# Altium integrated library ST Memory EPROM 1-16 Mbit.IntLib: 1093 symbols (part 1 of 19)
Pins are listed as number, name and electrical type; pins without a type are passive.

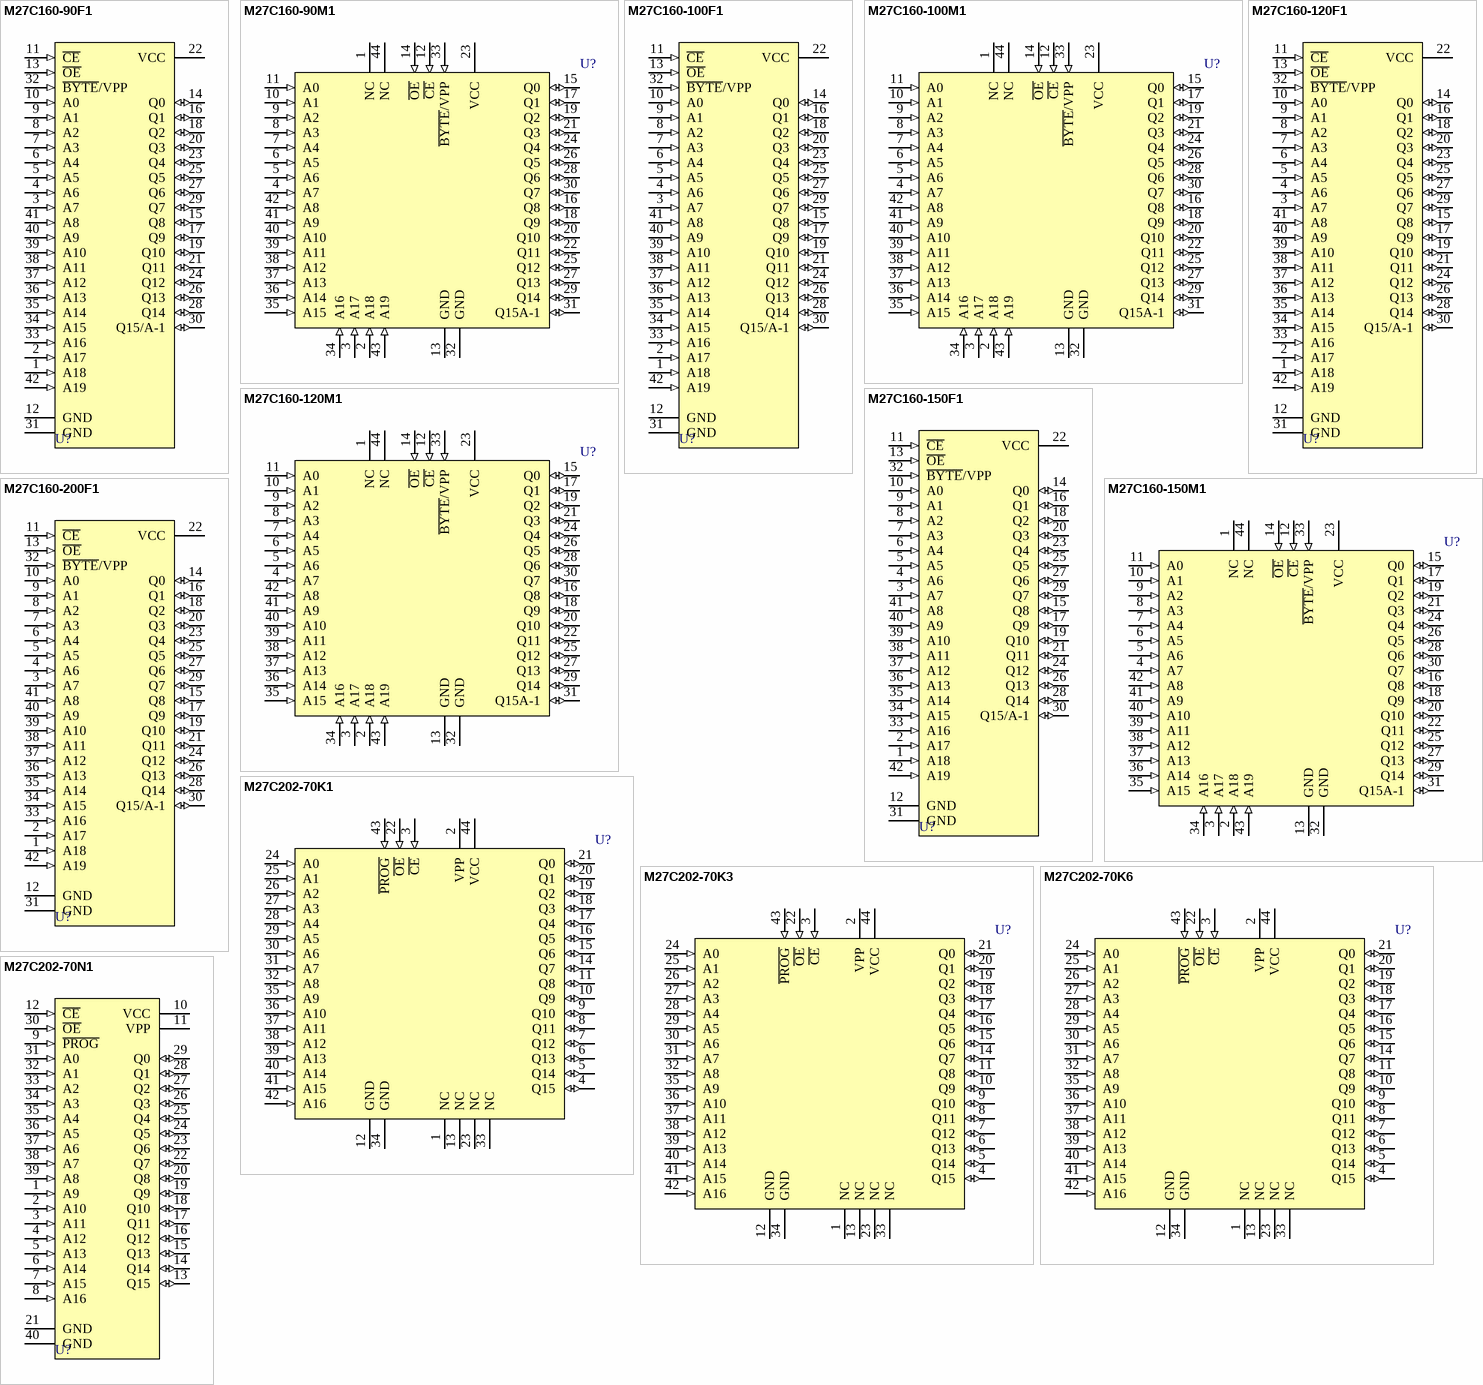
[diagram p0: symbols M27C160-90F1 to M27C202-70N1]

## M27C160-90F1
designator U?
16 Mbit (2Mb x 8 or 1Mb x 16) UV EPROM and OTP EPROM; Published: 24-Aug-2001; LatestRevisionDate: 17-Jul-2002; LatestRevisionNote: Re-released for DXP Platform.; DatasheetDocument: Feb-1999; PackageReference: FDIP42W; Publisher: Altium Limited
footprint FDIP42W (Ceramic Frit-seal DIP, Window; 42 Leads; Row Spacing 15.24 mm; Pitch 2.54 mm)
pins: 1 A18 (in), 2 A17 (in), 3 A7 (in), 4 A6 (in), 5 A5 (in), 6 A4 (in), 7 A3 (in), 8 A2 (in), 9 A1 (in), 10 A0 (in), 11 ~{CE} (in), 12 GND (power), 13 ~{OE} (in), 14 Q0 (io), 15 Q8 (io), 16 Q1 (io), 17 Q9 (io), 18 Q2 (io), 19 Q10 (io), 20 Q3 (io), 21 Q11 (io), 22 VCC (power), 23 Q4 (io), 24 Q12 (io), 25 Q5 (io), 26 Q13 (io), 27 Q6 (io), 28 Q14 (io), 29 Q7 (io), 30 Q15/A-1 (io), 31 GND (power), 32 ~{BYTE}/VPP (in), 33 A16 (in), 34 A15 (in), 35 A14 (in), 36 A13 (in), 37 A12 (in), 38 A11 (in), 39 A10 (in), 40 A9 (in), 41 A8 (in), 42 A19 (in)

## M27C160-90M1
designator U?
16 Mbit (2Mb x 8 or 1Mb x 16) UV EPROM and OTP EPROM; Published: 24-Aug-2001; LatestRevisionDate: 17-Jul-2002; LatestRevisionNote: Re-released for DXP Platform.; DatasheetDocument: Feb-1999; PackageReference: SO44; Publisher: Altium Limited
footprint SO44 (Small Outline, Plastic; 44 Leads; Body Width 13.3 mm; Pitch 1.27 mm)
pins: 1 NC, 2 A18 (in), 3 A17 (in), 4 A7 (in), 5 A6 (in), 6 A5 (in), 7 A4 (in), 8 A3 (in), 9 A2 (in), 10 A1 (in), 11 A0 (in), 12 ~{CE} (in), 13 GND (power), 14 ~{OE} (in), 15 Q0 (io), 16 Q8 (io), 17 Q1 (io), 18 Q9 (io), 19 Q2 (io), 20 Q10 (io), 21 Q3 (io), 22 Q11 (io), 23 VCC (power), 24 Q4 (io), 25 Q12 (io), 26 Q5 (io), 27 Q13 (io), 28 Q6 (io), 29 Q14 (io), 30 Q7 (io), 31 Q15A-1 (io), 32 GND (power), 33 ~{BYTE}/VPP (in), 34 A16 (in), 35 A15 (in), 36 A14 (in), 37 A13 (in), 38 A12 (in), 39 A11 (in), 40 A10 (in), 41 A9 (in), 42 A8 (in), 43 A19 (in), 44 NC

## M27C160-100F1
designator U?
16 Mbit (2Mb x 8 or 1Mb x 16) UV EPROM and OTP EPROM; Published: 24-Aug-2001; LatestRevisionDate: 17-Jul-2002; LatestRevisionNote: Re-released for DXP Platform.; DatasheetDocument: Feb-1999; PackageReference: FDIP42W; Publisher: Altium Limited
footprint FDIP42W (Ceramic Frit-seal DIP, Window; 42 Leads; Row Spacing 15.24 mm; Pitch 2.54 mm)
pins: 1 A18 (in), 2 A17 (in), 3 A7 (in), 4 A6 (in), 5 A5 (in), 6 A4 (in), 7 A3 (in), 8 A2 (in), 9 A1 (in), 10 A0 (in), 11 ~{CE} (in), 12 GND (power), 13 ~{OE} (in), 14 Q0 (io), 15 Q8 (io), 16 Q1 (io), 17 Q9 (io), 18 Q2 (io), 19 Q10 (io), 20 Q3 (io), 21 Q11 (io), 22 VCC (power), 23 Q4 (io), 24 Q12 (io), 25 Q5 (io), 26 Q13 (io), 27 Q6 (io), 28 Q14 (io), 29 Q7 (io), 30 Q15/A-1 (io), 31 GND (power), 32 ~{BYTE}/VPP (in), 33 A16 (in), 34 A15 (in), 35 A14 (in), 36 A13 (in), 37 A12 (in), 38 A11 (in), 39 A10 (in), 40 A9 (in), 41 A8 (in), 42 A19 (in)

## M27C160-100M1
designator U?
16 Mbit (2Mb x 8 or 1Mb x 16) UV EPROM and OTP EPROM; Published: 24-Aug-2001; LatestRevisionDate: 17-Jul-2002; LatestRevisionNote: Re-released for DXP Platform.; DatasheetDocument: Feb-1999; PackageReference: SO44; Publisher: Altium Limited
footprint SO44 (Small Outline, Plastic; 44 Leads; Body Width 13.3 mm; Pitch 1.27 mm)
pins: 1 NC, 2 A18 (in), 3 A17 (in), 4 A7 (in), 5 A6 (in), 6 A5 (in), 7 A4 (in), 8 A3 (in), 9 A2 (in), 10 A1 (in), 11 A0 (in), 12 ~{CE} (in), 13 GND (power), 14 ~{OE} (in), 15 Q0 (io), 16 Q8 (io), 17 Q1 (io), 18 Q9 (io), 19 Q2 (io), 20 Q10 (io), 21 Q3 (io), 22 Q11 (io), 23 VCC (power), 24 Q4 (io), 25 Q12 (io), 26 Q5 (io), 27 Q13 (io), 28 Q6 (io), 29 Q14 (io), 30 Q7 (io), 31 Q15A-1 (io), 32 GND (power), 33 ~{BYTE}/VPP (in), 34 A16 (in), 35 A15 (in), 36 A14 (in), 37 A13 (in), 38 A12 (in), 39 A11 (in), 40 A10 (in), 41 A9 (in), 42 A8 (in), 43 A19 (in), 44 NC

## M27C160-120F1
designator U?
16 Mbit (2Mb x 8 or 1Mb x 16) UV EPROM and OTP EPROM; Published: 24-Aug-2001; LatestRevisionDate: 17-Jul-2002; LatestRevisionNote: Re-released for DXP Platform.; DatasheetDocument: Feb-1999; PackageReference: FDIP42W; Publisher: Altium Limited
footprint FDIP42W (Ceramic Frit-seal DIP, Window; 42 Leads; Row Spacing 15.24 mm; Pitch 2.54 mm)
pins: 1 A18 (in), 2 A17 (in), 3 A7 (in), 4 A6 (in), 5 A5 (in), 6 A4 (in), 7 A3 (in), 8 A2 (in), 9 A1 (in), 10 A0 (in), 11 ~{CE} (in), 12 GND (power), 13 ~{OE} (in), 14 Q0 (io), 15 Q8 (io), 16 Q1 (io), 17 Q9 (io), 18 Q2 (io), 19 Q10 (io), 20 Q3 (io), 21 Q11 (io), 22 VCC (power), 23 Q4 (io), 24 Q12 (io), 25 Q5 (io), 26 Q13 (io), 27 Q6 (io), 28 Q14 (io), 29 Q7 (io), 30 Q15/A-1 (io), 31 GND (power), 32 ~{BYTE}/VPP (in), 33 A16 (in), 34 A15 (in), 35 A14 (in), 36 A13 (in), 37 A12 (in), 38 A11 (in), 39 A10 (in), 40 A9 (in), 41 A8 (in), 42 A19 (in)

## M27C160-120M1
designator U?
16 Mbit (2Mb x 8 or 1Mb x 16) UV EPROM and OTP EPROM; Published: 24-Aug-2001; LatestRevisionDate: 17-Jul-2002; LatestRevisionNote: Re-released for DXP Platform.; DatasheetDocument: Feb-1999; PackageReference: SO44; Publisher: Altium Limited
footprint SO44 (Small Outline, Plastic; 44 Leads; Body Width 13.3 mm; Pitch 1.27 mm)
pins: 1 NC, 2 A18 (in), 3 A17 (in), 4 A7 (in), 5 A6 (in), 6 A5 (in), 7 A4 (in), 8 A3 (in), 9 A2 (in), 10 A1 (in), 11 A0 (in), 12 ~{CE} (in), 13 GND (power), 14 ~{OE} (in), 15 Q0 (io), 16 Q8 (io), 17 Q1 (io), 18 Q9 (io), 19 Q2 (io), 20 Q10 (io), 21 Q3 (io), 22 Q11 (io), 23 VCC (power), 24 Q4 (io), 25 Q12 (io), 26 Q5 (io), 27 Q13 (io), 28 Q6 (io), 29 Q14 (io), 30 Q7 (io), 31 Q15A-1 (io), 32 GND (power), 33 ~{BYTE}/VPP (in), 34 A16 (in), 35 A15 (in), 36 A14 (in), 37 A13 (in), 38 A12 (in), 39 A11 (in), 40 A10 (in), 41 A9 (in), 42 A8 (in), 43 A19 (in), 44 NC

## M27C160-150F1
designator U?
16 Mbit (2Mb x 8 or 1Mb x 16) UV EPROM and OTP EPROM; Published: 24-Aug-2001; LatestRevisionDate: 17-Jul-2002; LatestRevisionNote: Re-released for DXP Platform.; DatasheetDocument: Feb-1999; PackageReference: FDIP42W; Publisher: Altium Limited
footprint FDIP42W (Ceramic Frit-seal DIP, Window; 42 Leads; Row Spacing 15.24 mm; Pitch 2.54 mm)
pins: 1 A18 (in), 2 A17 (in), 3 A7 (in), 4 A6 (in), 5 A5 (in), 6 A4 (in), 7 A3 (in), 8 A2 (in), 9 A1 (in), 10 A0 (in), 11 ~{CE} (in), 12 GND (power), 13 ~{OE} (in), 14 Q0 (io), 15 Q8 (io), 16 Q1 (io), 17 Q9 (io), 18 Q2 (io), 19 Q10 (io), 20 Q3 (io), 21 Q11 (io), 22 VCC (power), 23 Q4 (io), 24 Q12 (io), 25 Q5 (io), 26 Q13 (io), 27 Q6 (io), 28 Q14 (io), 29 Q7 (io), 30 Q15/A-1 (io), 31 GND (power), 32 ~{BYTE}/VPP (in), 33 A16 (in), 34 A15 (in), 35 A14 (in), 36 A13 (in), 37 A12 (in), 38 A11 (in), 39 A10 (in), 40 A9 (in), 41 A8 (in), 42 A19 (in)

## M27C160-150M1
designator U?
16 Mbit (2Mb x 8 or 1Mb x 16) UV EPROM and OTP EPROM; Published: 24-Aug-2001; LatestRevisionDate: 17-Jul-2002; LatestRevisionNote: Re-released for DXP Platform.; DatasheetDocument: Feb-1999; PackageReference: SO44; Publisher: Altium Limited
footprint SO44 (Small Outline, Plastic; 44 Leads; Body Width 13.3 mm; Pitch 1.27 mm)
pins: 1 NC, 2 A18 (in), 3 A17 (in), 4 A7 (in), 5 A6 (in), 6 A5 (in), 7 A4 (in), 8 A3 (in), 9 A2 (in), 10 A1 (in), 11 A0 (in), 12 ~{CE} (in), 13 GND (power), 14 ~{OE} (in), 15 Q0 (io), 16 Q8 (io), 17 Q1 (io), 18 Q9 (io), 19 Q2 (io), 20 Q10 (io), 21 Q3 (io), 22 Q11 (io), 23 VCC (power), 24 Q4 (io), 25 Q12 (io), 26 Q5 (io), 27 Q13 (io), 28 Q6 (io), 29 Q14 (io), 30 Q7 (io), 31 Q15A-1 (io), 32 GND (power), 33 ~{BYTE}/VPP (in), 34 A16 (in), 35 A15 (in), 36 A14 (in), 37 A13 (in), 38 A12 (in), 39 A11 (in), 40 A10 (in), 41 A9 (in), 42 A8 (in), 43 A19 (in), 44 NC

## M27C160-200F1
designator U?
16 Mbit (2Mb x 8 or 1Mb x 16) UV EPROM and OTP EPROM; Published: 24-Aug-2001; LatestRevisionDate: 17-Jul-2002; LatestRevisionNote: Re-released for DXP Platform.; DatasheetDocument: Feb-1999; PackageReference: FDIP42W; Publisher: Altium Limited
footprint FDIP42W (Ceramic Frit-seal DIP, Window; 42 Leads; Row Spacing 15.24 mm; Pitch 2.54 mm)
pins: 1 A18 (in), 2 A17 (in), 3 A7 (in), 4 A6 (in), 5 A5 (in), 6 A4 (in), 7 A3 (in), 8 A2 (in), 9 A1 (in), 10 A0 (in), 11 ~{CE} (in), 12 GND (power), 13 ~{OE} (in), 14 Q0 (io), 15 Q8 (io), 16 Q1 (io), 17 Q9 (io), 18 Q2 (io), 19 Q10 (io), 20 Q3 (io), 21 Q11 (io), 22 VCC (power), 23 Q4 (io), 24 Q12 (io), 25 Q5 (io), 26 Q13 (io), 27 Q6 (io), 28 Q14 (io), 29 Q7 (io), 30 Q15/A-1 (io), 31 GND (power), 32 ~{BYTE}/VPP (in), 33 A16 (in), 34 A15 (in), 35 A14 (in), 36 A13 (in), 37 A12 (in), 38 A11 (in), 39 A10 (in), 40 A9 (in), 41 A8 (in), 42 A19 (in)

## M27C202-70K1
designator U?
2 Mbit (128Kb x 16) UV EPROM and OTP EPROM; Published: 24-Aug-2001; LatestRevisionDate: 17-Jul-2002; LatestRevisionNote: Re-released for DXP Platform.; DatasheetDocument: Apr-1999; PackageDocument: Jun-1998; PackageReference: PLCC44; Publisher: Altium Limited; Code_IPC: PLCC-44
footprint PLCC44 (Leaded Chip Carrier; 44 Leads; Body 16.5 x 16.5 mm)
pins: 1 NC, 2 VPP (power), 3 ~{CE} (in), 4 Q15 (io), 5 Q14 (io), 6 Q13 (io), 7 Q12 (io), 8 Q11 (io), 9 Q10 (io), 10 Q9 (io), 11 Q8 (io), 12 GND (power), 13 NC, 14 Q7 (io), 15 Q6 (io), 16 Q5 (io), 17 Q4 (io), 18 Q3 (io), 19 Q2 (io), 20 Q1 (io), 21 Q0 (io), 22 ~{OE} (in), 23 NC, 24 A0 (in), 25 A1 (in), 26 A2 (in), 27 A3 (in), 28 A4 (in), 29 A5 (in), 30 A6 (in), 31 A7 (in), 32 A8 (in), 33 NC, 34 GND (power), 35 A9 (in), 36 A10 (in), 37 A11 (in), 38 A12 (in), 39 A13 (in), 40 A14 (in), 41 A15 (in), 42 A16 (in), 43 ~{PROG} (in), 44 VCC (power)

## M27C202-70K3
designator U?
2 Mbit (128Kb x 16) UV EPROM and OTP EPROM; Published: 24-Aug-2001; LatestRevisionDate: 17-Jul-2002; LatestRevisionNote: Re-released for DXP Platform.; DatasheetDocument: Apr-1999; PackageDocument: Jun-1998; PackageReference: PLCC44; Publisher: Altium Limited; Code_IPC: PLCC-44
footprint PLCC44 (Leaded Chip Carrier; 44 Leads; Body 16.5 x 16.5 mm)
pins: 1 NC, 2 VPP (power), 3 ~{CE} (in), 4 Q15 (io), 5 Q14 (io), 6 Q13 (io), 7 Q12 (io), 8 Q11 (io), 9 Q10 (io), 10 Q9 (io), 11 Q8 (io), 12 GND (power), 13 NC, 14 Q7 (io), 15 Q6 (io), 16 Q5 (io), 17 Q4 (io), 18 Q3 (io), 19 Q2 (io), 20 Q1 (io), 21 Q0 (io), 22 ~{OE} (in), 23 NC, 24 A0 (in), 25 A1 (in), 26 A2 (in), 27 A3 (in), 28 A4 (in), 29 A5 (in), 30 A6 (in), 31 A7 (in), 32 A8 (in), 33 NC, 34 GND (power), 35 A9 (in), 36 A10 (in), 37 A11 (in), 38 A12 (in), 39 A13 (in), 40 A14 (in), 41 A15 (in), 42 A16 (in), 43 ~{PROG} (in), 44 VCC (power)

## M27C202-70K6
designator U?
2 Mbit (128Kb x 16) UV EPROM and OTP EPROM; Published: 24-Aug-2001; LatestRevisionDate: 17-Jul-2002; LatestRevisionNote: Re-released for DXP Platform.; DatasheetDocument: Apr-1999; PackageDocument: Jun-1998; PackageReference: PLCC44; Publisher: Altium Limited; Code_IPC: PLCC-44
footprint PLCC44 (Leaded Chip Carrier; 44 Leads; Body 16.5 x 16.5 mm)
pins: 1 NC, 2 VPP (power), 3 ~{CE} (in), 4 Q15 (io), 5 Q14 (io), 6 Q13 (io), 7 Q12 (io), 8 Q11 (io), 9 Q10 (io), 10 Q9 (io), 11 Q8 (io), 12 GND (power), 13 NC, 14 Q7 (io), 15 Q6 (io), 16 Q5 (io), 17 Q4 (io), 18 Q3 (io), 19 Q2 (io), 20 Q1 (io), 21 Q0 (io), 22 ~{OE} (in), 23 NC, 24 A0 (in), 25 A1 (in), 26 A2 (in), 27 A3 (in), 28 A4 (in), 29 A5 (in), 30 A6 (in), 31 A7 (in), 32 A8 (in), 33 NC, 34 GND (power), 35 A9 (in), 36 A10 (in), 37 A11 (in), 38 A12 (in), 39 A13 (in), 40 A14 (in), 41 A15 (in), 42 A16 (in), 43 ~{PROG} (in), 44 VCC (power)

## M27C202-70N1
designator U?
2 Mbit (128Kb x 16) UV EPROM and OTP EPROM; Published: 24-Aug-2001; LatestRevisionDate: 17-Jul-2002; LatestRevisionNote: Re-released for DXP Platform.; DatasheetDocument: Apr-1999; PackageDocument: Jul-1998; PackageReference: TSOP40B; Publisher: Altium Limited; Code_JEDEC: MO-142-CA
footprint TSOP40B (Shrink Small Outline, Plastic, Thin; 40 Leads; Body Width 12.4 mm; Pitch 0.5 mm)
pins: 1 A9 (in), 2 A10 (in), 3 A11 (in), 4 A12 (in), 5 A13 (in), 6 A14 (in), 7 A15 (in), 8 A16 (in), 9 ~{PROG} (in), 10 VCC (power), 11 VPP (power), 12 ~{CE} (in), 13 Q15 (io), 14 Q14 (io), 15 Q13 (io), 16 Q12 (io), 17 Q11 (io), 18 Q10 (io), 19 Q9 (io), 20 Q8 (io), 21 GND (power), 22 Q7 (io), 23 Q6 (io), 24 Q5 (io), 25 Q4 (io), 26 Q3 (io), 27 Q2 (io), 28 Q1 (io), 29 Q0 (io), 30 ~{OE} (in), 31 A0 (in), 32 A1 (in), 33 A2 (in), 34 A3 (in), 35 A4 (in), 36 A5 (in), 37 A6 (in), 38 A7 (in), 39 A8 (in), 40 GND (power)

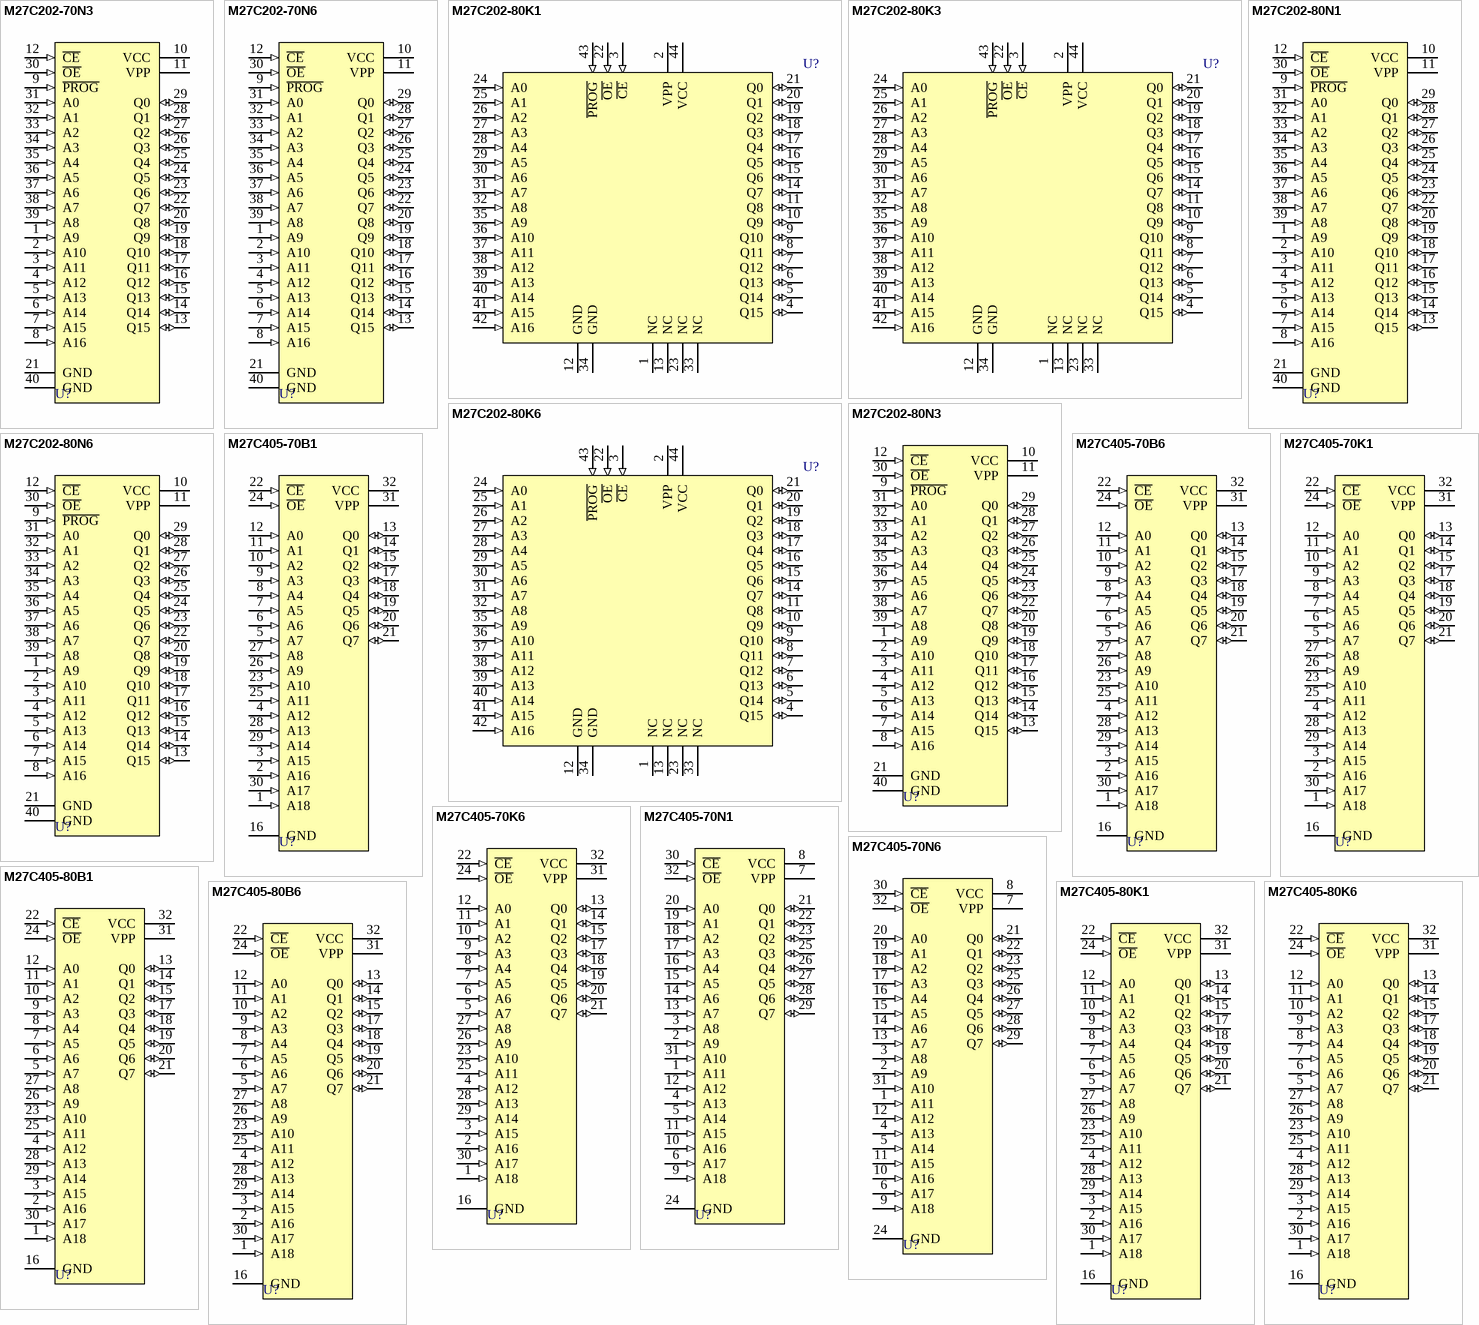
[diagram p1: symbols M27C202-70N3 to M27C405-80K6]

## M27C202-70N3
designator U?
2 Mbit (128Kb x 16) UV EPROM and OTP EPROM; Published: 24-Aug-2001; LatestRevisionDate: 17-Jul-2002; LatestRevisionNote: Re-released for DXP Platform.; DatasheetDocument: Apr-1999; PackageDocument: Jul-1998; PackageReference: TSOP40B; Publisher: Altium Limited; Code_JEDEC: MO-142-CA
footprint TSOP40B (Shrink Small Outline, Plastic, Thin; 40 Leads; Body Width 12.4 mm; Pitch 0.5 mm)
pins: 1 A9 (in), 2 A10 (in), 3 A11 (in), 4 A12 (in), 5 A13 (in), 6 A14 (in), 7 A15 (in), 8 A16 (in), 9 ~{PROG} (in), 10 VCC (power), 11 VPP (power), 12 ~{CE} (in), 13 Q15 (io), 14 Q14 (io), 15 Q13 (io), 16 Q12 (io), 17 Q11 (io), 18 Q10 (io), 19 Q9 (io), 20 Q8 (io), 21 GND (power), 22 Q7 (io), 23 Q6 (io), 24 Q5 (io), 25 Q4 (io), 26 Q3 (io), 27 Q2 (io), 28 Q1 (io), 29 Q0 (io), 30 ~{OE} (in), 31 A0 (in), 32 A1 (in), 33 A2 (in), 34 A3 (in), 35 A4 (in), 36 A5 (in), 37 A6 (in), 38 A7 (in), 39 A8 (in), 40 GND (power)

## M27C202-70N6
designator U?
2 Mbit (128Kb x 16) UV EPROM and OTP EPROM; Published: 24-Aug-2001; LatestRevisionDate: 17-Jul-2002; LatestRevisionNote: Re-released for DXP Platform.; DatasheetDocument: Apr-1999; PackageDocument: Jul-1998; PackageReference: TSOP40B; Publisher: Altium Limited; Code_JEDEC: MO-142-CA
footprint TSOP40B (Shrink Small Outline, Plastic, Thin; 40 Leads; Body Width 12.4 mm; Pitch 0.5 mm)
pins: 1 A9 (in), 2 A10 (in), 3 A11 (in), 4 A12 (in), 5 A13 (in), 6 A14 (in), 7 A15 (in), 8 A16 (in), 9 ~{PROG} (in), 10 VCC (power), 11 VPP (power), 12 ~{CE} (in), 13 Q15 (io), 14 Q14 (io), 15 Q13 (io), 16 Q12 (io), 17 Q11 (io), 18 Q10 (io), 19 Q9 (io), 20 Q8 (io), 21 GND (power), 22 Q7 (io), 23 Q6 (io), 24 Q5 (io), 25 Q4 (io), 26 Q3 (io), 27 Q2 (io), 28 Q1 (io), 29 Q0 (io), 30 ~{OE} (in), 31 A0 (in), 32 A1 (in), 33 A2 (in), 34 A3 (in), 35 A4 (in), 36 A5 (in), 37 A6 (in), 38 A7 (in), 39 A8 (in), 40 GND (power)

## M27C202-80K1
designator U?
2 Mbit (128Kb x 16) UV EPROM and OTP EPROM; Published: 24-Aug-2001; LatestRevisionDate: 17-Jul-2002; LatestRevisionNote: Re-released for DXP Platform.; DatasheetDocument: Apr-1999; PackageDocument: Jun-1998; PackageReference: PLCC44; Publisher: Altium Limited; Code_IPC: PLCC-44
footprint PLCC44 (Leaded Chip Carrier; 44 Leads; Body 16.5 x 16.5 mm)
pins: 1 NC, 2 VPP (power), 3 ~{CE} (in), 4 Q15 (io), 5 Q14 (io), 6 Q13 (io), 7 Q12 (io), 8 Q11 (io), 9 Q10 (io), 10 Q9 (io), 11 Q8 (io), 12 GND (power), 13 NC, 14 Q7 (io), 15 Q6 (io), 16 Q5 (io), 17 Q4 (io), 18 Q3 (io), 19 Q2 (io), 20 Q1 (io), 21 Q0 (io), 22 ~{OE} (in), 23 NC, 24 A0 (in), 25 A1 (in), 26 A2 (in), 27 A3 (in), 28 A4 (in), 29 A5 (in), 30 A6 (in), 31 A7 (in), 32 A8 (in), 33 NC, 34 GND (power), 35 A9 (in), 36 A10 (in), 37 A11 (in), 38 A12 (in), 39 A13 (in), 40 A14 (in), 41 A15 (in), 42 A16 (in), 43 ~{PROG} (in), 44 VCC (power)

## M27C202-80K3
designator U?
2 Mbit (128Kb x 16) UV EPROM and OTP EPROM; Published: 24-Aug-2001; LatestRevisionDate: 17-Jul-2002; LatestRevisionNote: Re-released for DXP Platform.; DatasheetDocument: Apr-1999; PackageDocument: Jun-1998; PackageReference: PLCC44; Publisher: Altium Limited; Code_IPC: PLCC-44
footprint PLCC44 (Leaded Chip Carrier; 44 Leads; Body 16.5 x 16.5 mm)
pins: 1 NC, 2 VPP (power), 3 ~{CE} (in), 4 Q15 (io), 5 Q14 (io), 6 Q13 (io), 7 Q12 (io), 8 Q11 (io), 9 Q10 (io), 10 Q9 (io), 11 Q8 (io), 12 GND (power), 13 NC, 14 Q7 (io), 15 Q6 (io), 16 Q5 (io), 17 Q4 (io), 18 Q3 (io), 19 Q2 (io), 20 Q1 (io), 21 Q0 (io), 22 ~{OE} (in), 23 NC, 24 A0 (in), 25 A1 (in), 26 A2 (in), 27 A3 (in), 28 A4 (in), 29 A5 (in), 30 A6 (in), 31 A7 (in), 32 A8 (in), 33 NC, 34 GND (power), 35 A9 (in), 36 A10 (in), 37 A11 (in), 38 A12 (in), 39 A13 (in), 40 A14 (in), 41 A15 (in), 42 A16 (in), 43 ~{PROG} (in), 44 VCC (power)

## M27C202-80K6
designator U?
2 Mbit (128Kb x 16) UV EPROM and OTP EPROM; Published: 24-Aug-2001; LatestRevisionDate: 17-Jul-2002; LatestRevisionNote: Re-released for DXP Platform.; DatasheetDocument: Apr-1999; PackageDocument: Jun-1998; PackageReference: PLCC44; Publisher: Altium Limited; Code_IPC: PLCC-44
footprint PLCC44 (Leaded Chip Carrier; 44 Leads; Body 16.5 x 16.5 mm)
pins: 1 NC, 2 VPP (power), 3 ~{CE} (in), 4 Q15 (io), 5 Q14 (io), 6 Q13 (io), 7 Q12 (io), 8 Q11 (io), 9 Q10 (io), 10 Q9 (io), 11 Q8 (io), 12 GND (power), 13 NC, 14 Q7 (io), 15 Q6 (io), 16 Q5 (io), 17 Q4 (io), 18 Q3 (io), 19 Q2 (io), 20 Q1 (io), 21 Q0 (io), 22 ~{OE} (in), 23 NC, 24 A0 (in), 25 A1 (in), 26 A2 (in), 27 A3 (in), 28 A4 (in), 29 A5 (in), 30 A6 (in), 31 A7 (in), 32 A8 (in), 33 NC, 34 GND (power), 35 A9 (in), 36 A10 (in), 37 A11 (in), 38 A12 (in), 39 A13 (in), 40 A14 (in), 41 A15 (in), 42 A16 (in), 43 ~{PROG} (in), 44 VCC (power)

## M27C202-80N1
designator U?
2 Mbit (128Kb x 16) UV EPROM and OTP EPROM; Published: 24-Aug-2001; LatestRevisionDate: 17-Jul-2002; LatestRevisionNote: Re-released for DXP Platform.; DatasheetDocument: Apr-1999; PackageDocument: Jul-1998; PackageReference: TSOP40B; Publisher: Altium Limited; Code_JEDEC: MO-142-CA
footprint TSOP40B (Shrink Small Outline, Plastic, Thin; 40 Leads; Body Width 12.4 mm; Pitch 0.5 mm)
pins: 1 A9 (in), 2 A10 (in), 3 A11 (in), 4 A12 (in), 5 A13 (in), 6 A14 (in), 7 A15 (in), 8 A16 (in), 9 ~{PROG} (in), 10 VCC (power), 11 VPP (power), 12 ~{CE} (in), 13 Q15 (io), 14 Q14 (io), 15 Q13 (io), 16 Q12 (io), 17 Q11 (io), 18 Q10 (io), 19 Q9 (io), 20 Q8 (io), 21 GND (power), 22 Q7 (io), 23 Q6 (io), 24 Q5 (io), 25 Q4 (io), 26 Q3 (io), 27 Q2 (io), 28 Q1 (io), 29 Q0 (io), 30 ~{OE} (in), 31 A0 (in), 32 A1 (in), 33 A2 (in), 34 A3 (in), 35 A4 (in), 36 A5 (in), 37 A6 (in), 38 A7 (in), 39 A8 (in), 40 GND (power)

## M27C202-80N3
designator U?
2 Mbit (128Kb x 16) UV EPROM and OTP EPROM; Published: 24-Aug-2001; LatestRevisionDate: 17-Jul-2002; LatestRevisionNote: Re-released for DXP Platform.; DatasheetDocument: Apr-1999; PackageDocument: Jul-1998; PackageReference: TSOP40B; Publisher: Altium Limited; Code_JEDEC: MO-142-CA
footprint TSOP40B (Shrink Small Outline, Plastic, Thin; 40 Leads; Body Width 12.4 mm; Pitch 0.5 mm)
pins: 1 A9 (in), 2 A10 (in), 3 A11 (in), 4 A12 (in), 5 A13 (in), 6 A14 (in), 7 A15 (in), 8 A16 (in), 9 ~{PROG} (in), 10 VCC (power), 11 VPP (power), 12 ~{CE} (in), 13 Q15 (io), 14 Q14 (io), 15 Q13 (io), 16 Q12 (io), 17 Q11 (io), 18 Q10 (io), 19 Q9 (io), 20 Q8 (io), 21 GND (power), 22 Q7 (io), 23 Q6 (io), 24 Q5 (io), 25 Q4 (io), 26 Q3 (io), 27 Q2 (io), 28 Q1 (io), 29 Q0 (io), 30 ~{OE} (in), 31 A0 (in), 32 A1 (in), 33 A2 (in), 34 A3 (in), 35 A4 (in), 36 A5 (in), 37 A6 (in), 38 A7 (in), 39 A8 (in), 40 GND (power)

## M27C202-80N6
designator U?
2 Mbit (128Kb x 16) UV EPROM and OTP EPROM; Published: 24-Aug-2001; LatestRevisionDate: 17-Jul-2002; LatestRevisionNote: Re-released for DXP Platform.; DatasheetDocument: Apr-1999; PackageDocument: Jul-1998; PackageReference: TSOP40B; Publisher: Altium Limited; Code_JEDEC: MO-142-CA
footprint TSOP40B (Shrink Small Outline, Plastic, Thin; 40 Leads; Body Width 12.4 mm; Pitch 0.5 mm)
pins: 1 A9 (in), 2 A10 (in), 3 A11 (in), 4 A12 (in), 5 A13 (in), 6 A14 (in), 7 A15 (in), 8 A16 (in), 9 ~{PROG} (in), 10 VCC (power), 11 VPP (power), 12 ~{CE} (in), 13 Q15 (io), 14 Q14 (io), 15 Q13 (io), 16 Q12 (io), 17 Q11 (io), 18 Q10 (io), 19 Q9 (io), 20 Q8 (io), 21 GND (power), 22 Q7 (io), 23 Q6 (io), 24 Q5 (io), 25 Q4 (io), 26 Q3 (io), 27 Q2 (io), 28 Q1 (io), 29 Q0 (io), 30 ~{OE} (in), 31 A0 (in), 32 A1 (in), 33 A2 (in), 34 A3 (in), 35 A4 (in), 36 A5 (in), 37 A6 (in), 38 A7 (in), 39 A8 (in), 40 GND (power)

## M27C405-70B1
designator U?
4 Mbit (512Kb x 8) OTP EPROM; PackageDocument: 1998; Published: 24-Aug-2001; LatestRevisionDate: 17-Jul-2002; LatestRevisionNote: Re-released for DXP Platform.; DatasheetDocument: Mar-1999; PackageReference: PDIP32; Publisher: Altium Limited
footprint PDIP32 (DIP, Plastic; 32 Leads; Row Spacing 15.24 mm; Pitch 2.54 mm)
pins: 1 A18 (in), 2 A16 (in), 3 A15 (in), 4 A12 (in), 5 A7 (in), 6 A6 (in), 7 A5 (in), 8 A4 (in), 9 A3 (in), 10 A2 (in), 11 A1 (in), 12 A0 (in), 13 Q0 (io), 14 Q1 (io), 15 Q2 (io), 16 GND (power), 17 Q3 (io), 18 Q4 (io), 19 Q5 (io), 20 Q6 (io), 21 Q7 (io), 22 ~{CE} (in), 23 A10 (in), 24 ~{OE} (in), 25 A11 (in), 26 A9 (in), 27 A8 (in), 28 A13 (in), 29 A14 (in), 30 A17 (in), 31 VPP (power), 32 VCC (power)

## M27C405-70B6
designator U?
4 Mbit (512Kb x 8) OTP EPROM; PackageDocument: 1998; Published: 24-Aug-2001; LatestRevisionDate: 17-Jul-2002; LatestRevisionNote: Re-released for DXP Platform.; DatasheetDocument: Mar-1999; PackageReference: PDIP32; Publisher: Altium Limited
footprint PDIP32 (DIP, Plastic; 32 Leads; Row Spacing 15.24 mm; Pitch 2.54 mm)
pins: 1 A18 (in), 2 A16 (in), 3 A15 (in), 4 A12 (in), 5 A7 (in), 6 A6 (in), 7 A5 (in), 8 A4 (in), 9 A3 (in), 10 A2 (in), 11 A1 (in), 12 A0 (in), 13 Q0 (io), 14 Q1 (io), 15 Q2 (io), 16 GND (power), 17 Q3 (io), 18 Q4 (io), 19 Q5 (io), 20 Q6 (io), 21 Q7 (io), 22 ~{CE} (in), 23 A10 (in), 24 ~{OE} (in), 25 A11 (in), 26 A9 (in), 27 A8 (in), 28 A13 (in), 29 A14 (in), 30 A17 (in), 31 VPP (power), 32 VCC (power)

## M27C405-70K1
designator U?
4 Mbit (512Kb x 8) OTP EPROM; Published: 24-Aug-2001; LatestRevisionDate: 17-Jul-2002; LatestRevisionNote: Re-released for DXP Platform.; DatasheetDocument: Mar-1999; PackageDocument: Jun-1998; PackageReference: PLCC32; Publisher: Altium Limited; Code_JEDEC: MS-016-AE; Code_IPC: PLCC/R-32
footprint PLCC32 (Leaded Chip Carrier; 32 Leads; Body 11.4 x 14 mm)
pins: 1 A18 (in), 2 A16 (in), 3 A15 (in), 4 A12 (in), 5 A7 (in), 6 A6 (in), 7 A5 (in), 8 A4 (in), 9 A3 (in), 10 A2 (in), 11 A1 (in), 12 A0 (in), 13 Q0 (io), 14 Q1 (io), 15 Q2 (io), 16 GND (power), 17 Q3 (io), 18 Q4 (io), 19 Q5 (io), 20 Q6 (io), 21 Q7 (io), 22 ~{CE} (in), 23 A10 (in), 24 ~{OE} (in), 25 A11 (in), 26 A9 (in), 27 A8 (in), 28 A13 (in), 29 A14 (in), 30 A17 (in), 31 VPP (power), 32 VCC (power)

## M27C405-70K6
designator U?
4 Mbit (512Kb x 8) OTP EPROM; Published: 24-Aug-2001; LatestRevisionDate: 17-Jul-2002; LatestRevisionNote: Re-released for DXP Platform.; DatasheetDocument: Mar-1999; PackageDocument: Jun-1998; PackageReference: PLCC32; Publisher: Altium Limited; Code_JEDEC: MS-016-AE; Code_IPC: PLCC/R-32
footprint PLCC32 (Leaded Chip Carrier; 32 Leads; Body 11.4 x 14 mm)
pins: 1 A18 (in), 2 A16 (in), 3 A15 (in), 4 A12 (in), 5 A7 (in), 6 A6 (in), 7 A5 (in), 8 A4 (in), 9 A3 (in), 10 A2 (in), 11 A1 (in), 12 A0 (in), 13 Q0 (io), 14 Q1 (io), 15 Q2 (io), 16 GND (power), 17 Q3 (io), 18 Q4 (io), 19 Q5 (io), 20 Q6 (io), 21 Q7 (io), 22 ~{CE} (in), 23 A10 (in), 24 ~{OE} (in), 25 A11 (in), 26 A9 (in), 27 A8 (in), 28 A13 (in), 29 A14 (in), 30 A17 (in), 31 VPP (power), 32 VCC (power)

## M27C405-70N1
designator U?
4 Mbit (512Kb x 8) OTP EPROM; Published: 24-Aug-2001; LatestRevisionDate: 26-May-2004; LatestRevisionNote: Pad length of PCB Footprint increased.; DatasheetDocument: Mar-1999; PackageDocument: Mar-1999; PackageReference: TSOP32; Publisher: Altium Limited; Code_JEDEC: MO-142-BD
footprint TSOP32 (Shrink Small Outline, Plastic, Thin; 32 Leads; Body Width 18.4 mm; Pitch 0.5 mm)
pins: 1 A11 (in), 2 A9 (in), 3 A8 (in), 4 A13 (in), 5 A14 (in), 6 A17 (in), 7 VPP (power), 8 VCC (power), 9 A18 (in), 10 A16 (in), 11 A15 (in), 12 A12 (in), 13 A7 (in), 14 A6 (in), 15 A5 (in), 16 A4 (in), 17 A3 (in), 18 A2 (in), 19 A1 (in), 20 A0 (in), 21 Q0 (io), 22 Q1 (io), 23 Q2 (io), 24 GND (power), 25 Q3 (io), 26 Q4 (io), 27 Q5 (io), 28 Q6 (io), 29 Q7 (io), 30 ~{CE} (in), 31 A10 (in), 32 ~{OE} (in)

## M27C405-70N6
designator U?
4 Mbit (512Kb x 8) OTP EPROM; Published: 24-Aug-2001; LatestRevisionDate: 26-May-2004; LatestRevisionNote: Pad length of PCB Footprint increased.; DatasheetDocument: Mar-1999; PackageDocument: Mar-1999; PackageReference: TSOP32; Publisher: Altium Limited; Code_JEDEC: MO-142-BD
footprint TSOP32 (Shrink Small Outline, Plastic, Thin; 32 Leads; Body Width 18.4 mm; Pitch 0.5 mm)
pins: 1 A11 (in), 2 A9 (in), 3 A8 (in), 4 A13 (in), 5 A14 (in), 6 A17 (in), 7 VPP (power), 8 VCC (power), 9 A18 (in), 10 A16 (in), 11 A15 (in), 12 A12 (in), 13 A7 (in), 14 A6 (in), 15 A5 (in), 16 A4 (in), 17 A3 (in), 18 A2 (in), 19 A1 (in), 20 A0 (in), 21 Q0 (io), 22 Q1 (io), 23 Q2 (io), 24 GND (power), 25 Q3 (io), 26 Q4 (io), 27 Q5 (io), 28 Q6 (io), 29 Q7 (io), 30 ~{CE} (in), 31 A10 (in), 32 ~{OE} (in)

## M27C405-80B1
designator U?
4 Mbit (512Kb x 8) OTP EPROM; PackageDocument: 1998; Published: 24-Aug-2001; LatestRevisionDate: 17-Jul-2002; LatestRevisionNote: Re-released for DXP Platform.; DatasheetDocument: Mar-1999; PackageReference: PDIP32; Publisher: Altium Limited
footprint PDIP32 (DIP, Plastic; 32 Leads; Row Spacing 15.24 mm; Pitch 2.54 mm)
pins: 1 A18 (in), 2 A16 (in), 3 A15 (in), 4 A12 (in), 5 A7 (in), 6 A6 (in), 7 A5 (in), 8 A4 (in), 9 A3 (in), 10 A2 (in), 11 A1 (in), 12 A0 (in), 13 Q0 (io), 14 Q1 (io), 15 Q2 (io), 16 GND (power), 17 Q3 (io), 18 Q4 (io), 19 Q5 (io), 20 Q6 (io), 21 Q7 (io), 22 ~{CE} (in), 23 A10 (in), 24 ~{OE} (in), 25 A11 (in), 26 A9 (in), 27 A8 (in), 28 A13 (in), 29 A14 (in), 30 A17 (in), 31 VPP (power), 32 VCC (power)

## M27C405-80B6
designator U?
4 Mbit (512Kb x 8) OTP EPROM; PackageDocument: 1998; Published: 24-Aug-2001; LatestRevisionDate: 17-Jul-2002; LatestRevisionNote: Re-released for DXP Platform.; DatasheetDocument: Mar-1999; PackageReference: PDIP32; Publisher: Altium Limited
footprint PDIP32 (DIP, Plastic; 32 Leads; Row Spacing 15.24 mm; Pitch 2.54 mm)
pins: 1 A18 (in), 2 A16 (in), 3 A15 (in), 4 A12 (in), 5 A7 (in), 6 A6 (in), 7 A5 (in), 8 A4 (in), 9 A3 (in), 10 A2 (in), 11 A1 (in), 12 A0 (in), 13 Q0 (io), 14 Q1 (io), 15 Q2 (io), 16 GND (power), 17 Q3 (io), 18 Q4 (io), 19 Q5 (io), 20 Q6 (io), 21 Q7 (io), 22 ~{CE} (in), 23 A10 (in), 24 ~{OE} (in), 25 A11 (in), 26 A9 (in), 27 A8 (in), 28 A13 (in), 29 A14 (in), 30 A17 (in), 31 VPP (power), 32 VCC (power)

## M27C405-80K1
designator U?
4 Mbit (512Kb x 8) OTP EPROM; Published: 24-Aug-2001; LatestRevisionDate: 17-Jul-2002; LatestRevisionNote: Re-released for DXP Platform.; DatasheetDocument: Mar-1999; PackageDocument: Jun-1998; PackageReference: PLCC32; Publisher: Altium Limited; Code_JEDEC: MS-016-AE; Code_IPC: PLCC/R-32
footprint PLCC32 (Leaded Chip Carrier; 32 Leads; Body 11.4 x 14 mm)
pins: 1 A18 (in), 2 A16 (in), 3 A15 (in), 4 A12 (in), 5 A7 (in), 6 A6 (in), 7 A5 (in), 8 A4 (in), 9 A3 (in), 10 A2 (in), 11 A1 (in), 12 A0 (in), 13 Q0 (io), 14 Q1 (io), 15 Q2 (io), 16 GND (power), 17 Q3 (io), 18 Q4 (io), 19 Q5 (io), 20 Q6 (io), 21 Q7 (io), 22 ~{CE} (in), 23 A10 (in), 24 ~{OE} (in), 25 A11 (in), 26 A9 (in), 27 A8 (in), 28 A13 (in), 29 A14 (in), 30 A17 (in), 31 VPP (power), 32 VCC (power)

## M27C405-80K6
designator U?
4 Mbit (512Kb x 8) OTP EPROM; Published: 24-Aug-2001; LatestRevisionDate: 17-Jul-2002; LatestRevisionNote: Re-released for DXP Platform.; DatasheetDocument: Mar-1999; PackageDocument: Jun-1998; PackageReference: PLCC32; Publisher: Altium Limited; Code_JEDEC: MS-016-AE; Code_IPC: PLCC/R-32
footprint PLCC32 (Leaded Chip Carrier; 32 Leads; Body 11.4 x 14 mm)
pins: 1 A18 (in), 2 A16 (in), 3 A15 (in), 4 A12 (in), 5 A7 (in), 6 A6 (in), 7 A5 (in), 8 A4 (in), 9 A3 (in), 10 A2 (in), 11 A1 (in), 12 A0 (in), 13 Q0 (io), 14 Q1 (io), 15 Q2 (io), 16 GND (power), 17 Q3 (io), 18 Q4 (io), 19 Q5 (io), 20 Q6 (io), 21 Q7 (io), 22 ~{CE} (in), 23 A10 (in), 24 ~{OE} (in), 25 A11 (in), 26 A9 (in), 27 A8 (in), 28 A13 (in), 29 A14 (in), 30 A17 (in), 31 VPP (power), 32 VCC (power)

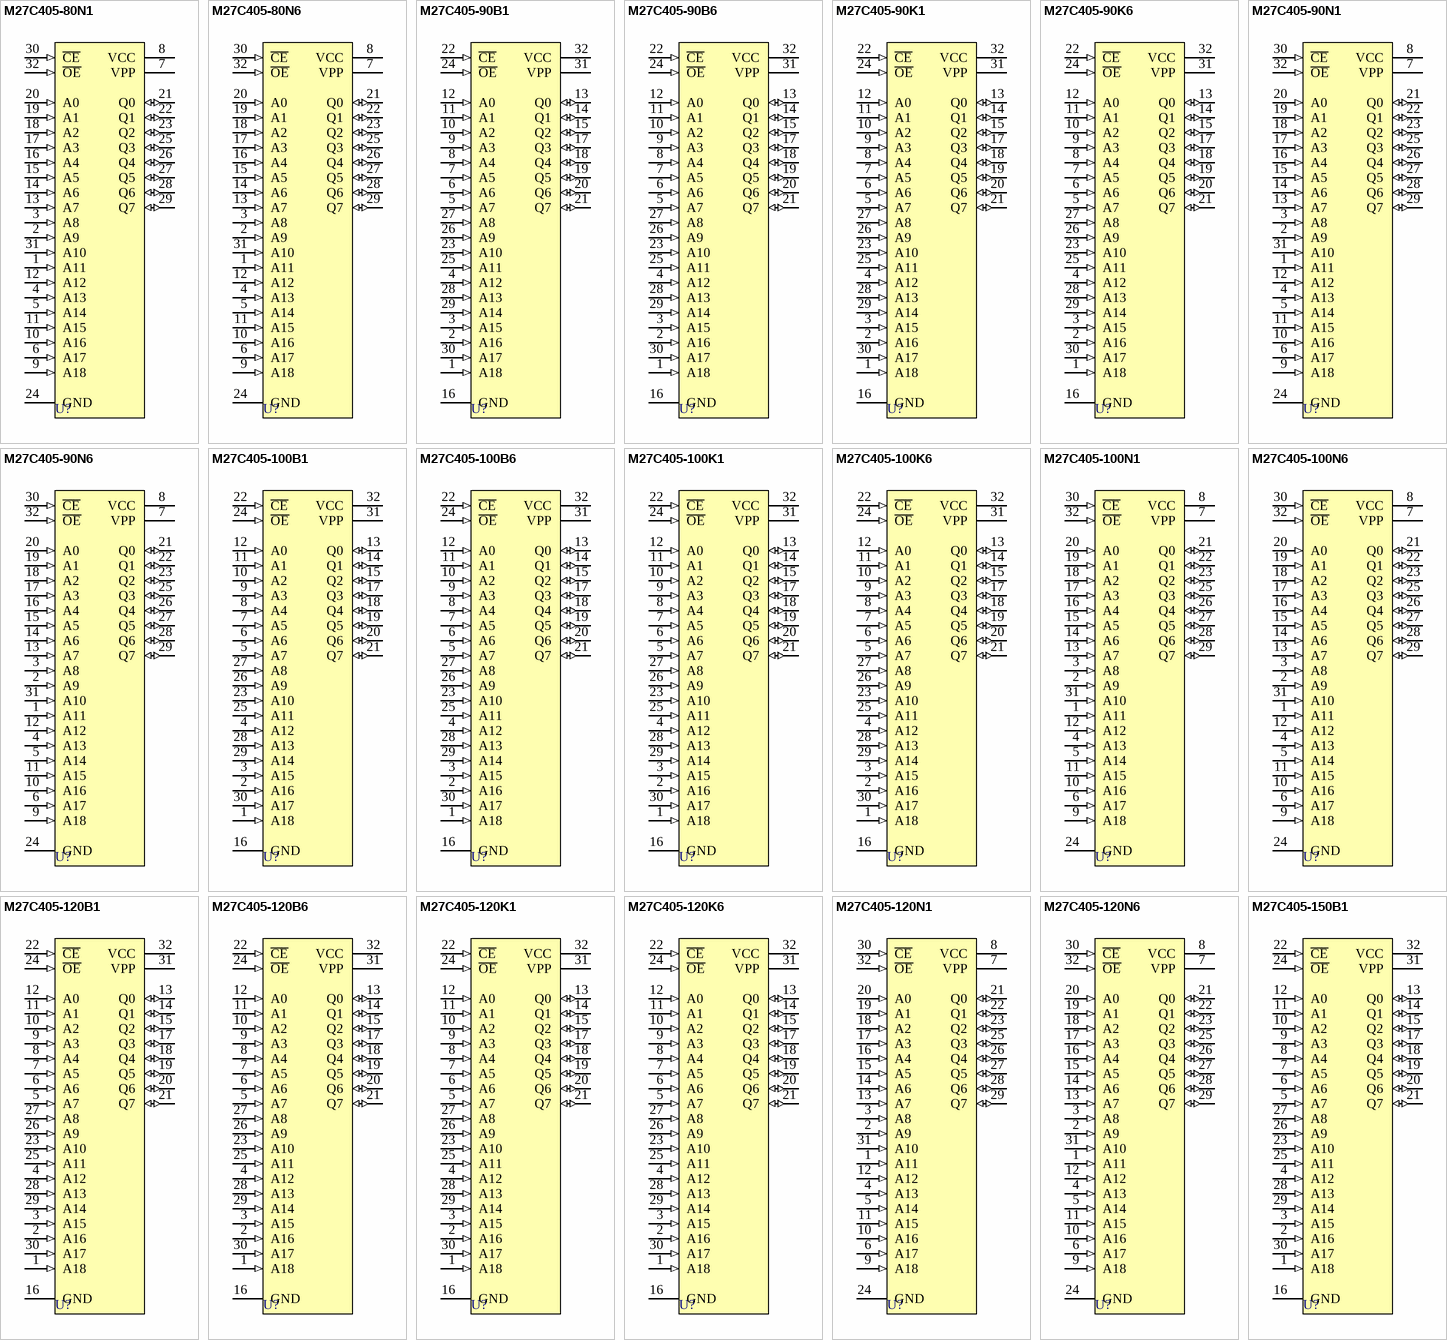
[diagram p2: symbols M27C405-80N1 to M27C405-150B1]

## M27C405-80N1
designator U?
4 Mbit (512Kb x 8) OTP EPROM; Published: 24-Aug-2001; LatestRevisionDate: 26-May-2004; LatestRevisionNote: Pad length of PCB Footprint increased.; DatasheetDocument: Mar-1999; PackageDocument: Mar-1999; PackageReference: TSOP32; Publisher: Altium Limited; Code_JEDEC: MO-142-BD
footprint TSOP32 (Shrink Small Outline, Plastic, Thin; 32 Leads; Body Width 18.4 mm; Pitch 0.5 mm)
pins: 1 A11 (in), 2 A9 (in), 3 A8 (in), 4 A13 (in), 5 A14 (in), 6 A17 (in), 7 VPP (power), 8 VCC (power), 9 A18 (in), 10 A16 (in), 11 A15 (in), 12 A12 (in), 13 A7 (in), 14 A6 (in), 15 A5 (in), 16 A4 (in), 17 A3 (in), 18 A2 (in), 19 A1 (in), 20 A0 (in), 21 Q0 (io), 22 Q1 (io), 23 Q2 (io), 24 GND (power), 25 Q3 (io), 26 Q4 (io), 27 Q5 (io), 28 Q6 (io), 29 Q7 (io), 30 ~{CE} (in), 31 A10 (in), 32 ~{OE} (in)

## M27C405-80N6
designator U?
4 Mbit (512Kb x 8) OTP EPROM; Published: 24-Aug-2001; LatestRevisionDate: 26-May-2004; LatestRevisionNote: Pad length of PCB Footprint increased.; DatasheetDocument: Mar-1999; PackageDocument: Mar-1999; PackageReference: TSOP32; Publisher: Altium Limited; Code_JEDEC: MO-142-BD
footprint TSOP32 (Shrink Small Outline, Plastic, Thin; 32 Leads; Body Width 18.4 mm; Pitch 0.5 mm)
pins: 1 A11 (in), 2 A9 (in), 3 A8 (in), 4 A13 (in), 5 A14 (in), 6 A17 (in), 7 VPP (power), 8 VCC (power), 9 A18 (in), 10 A16 (in), 11 A15 (in), 12 A12 (in), 13 A7 (in), 14 A6 (in), 15 A5 (in), 16 A4 (in), 17 A3 (in), 18 A2 (in), 19 A1 (in), 20 A0 (in), 21 Q0 (io), 22 Q1 (io), 23 Q2 (io), 24 GND (power), 25 Q3 (io), 26 Q4 (io), 27 Q5 (io), 28 Q6 (io), 29 Q7 (io), 30 ~{CE} (in), 31 A10 (in), 32 ~{OE} (in)

## M27C405-90B1
designator U?
4 Mbit (512Kb x 8) OTP EPROM; PackageDocument: 1998; Published: 24-Aug-2001; LatestRevisionDate: 17-Jul-2002; LatestRevisionNote: Re-released for DXP Platform.; DatasheetDocument: Mar-1999; PackageReference: PDIP32; Publisher: Altium Limited
footprint PDIP32 (DIP, Plastic; 32 Leads; Row Spacing 15.24 mm; Pitch 2.54 mm)
pins: 1 A18 (in), 2 A16 (in), 3 A15 (in), 4 A12 (in), 5 A7 (in), 6 A6 (in), 7 A5 (in), 8 A4 (in), 9 A3 (in), 10 A2 (in), 11 A1 (in), 12 A0 (in), 13 Q0 (io), 14 Q1 (io), 15 Q2 (io), 16 GND (power), 17 Q3 (io), 18 Q4 (io), 19 Q5 (io), 20 Q6 (io), 21 Q7 (io), 22 ~{CE} (in), 23 A10 (in), 24 ~{OE} (in), 25 A11 (in), 26 A9 (in), 27 A8 (in), 28 A13 (in), 29 A14 (in), 30 A17 (in), 31 VPP (power), 32 VCC (power)

## M27C405-90B6
designator U?
4 Mbit (512Kb x 8) OTP EPROM; PackageDocument: 1998; Published: 24-Aug-2001; LatestRevisionDate: 17-Jul-2002; LatestRevisionNote: Re-released for DXP Platform.; DatasheetDocument: Mar-1999; PackageReference: PDIP32; Publisher: Altium Limited
footprint PDIP32 (DIP, Plastic; 32 Leads; Row Spacing 15.24 mm; Pitch 2.54 mm)
pins: 1 A18 (in), 2 A16 (in), 3 A15 (in), 4 A12 (in), 5 A7 (in), 6 A6 (in), 7 A5 (in), 8 A4 (in), 9 A3 (in), 10 A2 (in), 11 A1 (in), 12 A0 (in), 13 Q0 (io), 14 Q1 (io), 15 Q2 (io), 16 GND (power), 17 Q3 (io), 18 Q4 (io), 19 Q5 (io), 20 Q6 (io), 21 Q7 (io), 22 ~{CE} (in), 23 A10 (in), 24 ~{OE} (in), 25 A11 (in), 26 A9 (in), 27 A8 (in), 28 A13 (in), 29 A14 (in), 30 A17 (in), 31 VPP (power), 32 VCC (power)

## M27C405-90K1
designator U?
4 Mbit (512Kb x 8) OTP EPROM; Published: 24-Aug-2001; LatestRevisionDate: 17-Jul-2002; LatestRevisionNote: Re-released for DXP Platform.; DatasheetDocument: Mar-1999; PackageDocument: Jun-1998; PackageReference: PLCC32; Publisher: Altium Limited; Code_JEDEC: MS-016-AE; Code_IPC: PLCC/R-32
footprint PLCC32 (Leaded Chip Carrier; 32 Leads; Body 11.4 x 14 mm)
pins: 1 A18 (in), 2 A16 (in), 3 A15 (in), 4 A12 (in), 5 A7 (in), 6 A6 (in), 7 A5 (in), 8 A4 (in), 9 A3 (in), 10 A2 (in), 11 A1 (in), 12 A0 (in), 13 Q0 (io), 14 Q1 (io), 15 Q2 (io), 16 GND (power), 17 Q3 (io), 18 Q4 (io), 19 Q5 (io), 20 Q6 (io), 21 Q7 (io), 22 ~{CE} (in), 23 A10 (in), 24 ~{OE} (in), 25 A11 (in), 26 A9 (in), 27 A8 (in), 28 A13 (in), 29 A14 (in), 30 A17 (in), 31 VPP (power), 32 VCC (power)

## M27C405-90K6
designator U?
4 Mbit (512Kb x 8) OTP EPROM; Published: 24-Aug-2001; LatestRevisionDate: 17-Jul-2002; LatestRevisionNote: Re-released for DXP Platform.; DatasheetDocument: Mar-1999; PackageDocument: Jun-1998; PackageReference: PLCC32; Publisher: Altium Limited; Code_JEDEC: MS-016-AE; Code_IPC: PLCC/R-32
footprint PLCC32 (Leaded Chip Carrier; 32 Leads; Body 11.4 x 14 mm)
pins: 1 A18 (in), 2 A16 (in), 3 A15 (in), 4 A12 (in), 5 A7 (in), 6 A6 (in), 7 A5 (in), 8 A4 (in), 9 A3 (in), 10 A2 (in), 11 A1 (in), 12 A0 (in), 13 Q0 (io), 14 Q1 (io), 15 Q2 (io), 16 GND (power), 17 Q3 (io), 18 Q4 (io), 19 Q5 (io), 20 Q6 (io), 21 Q7 (io), 22 ~{CE} (in), 23 A10 (in), 24 ~{OE} (in), 25 A11 (in), 26 A9 (in), 27 A8 (in), 28 A13 (in), 29 A14 (in), 30 A17 (in), 31 VPP (power), 32 VCC (power)

## M27C405-90N1
designator U?
4 Mbit (512Kb x 8) OTP EPROM; Published: 24-Aug-2001; LatestRevisionDate: 26-May-2004; LatestRevisionNote: Pad length of PCB Footprint increased.; DatasheetDocument: Mar-1999; PackageDocument: Mar-1999; PackageReference: TSOP32; Publisher: Altium Limited; Code_JEDEC: MO-142-BD
footprint TSOP32 (Shrink Small Outline, Plastic, Thin; 32 Leads; Body Width 18.4 mm; Pitch 0.5 mm)
pins: 1 A11 (in), 2 A9 (in), 3 A8 (in), 4 A13 (in), 5 A14 (in), 6 A17 (in), 7 VPP (power), 8 VCC (power), 9 A18 (in), 10 A16 (in), 11 A15 (in), 12 A12 (in), 13 A7 (in), 14 A6 (in), 15 A5 (in), 16 A4 (in), 17 A3 (in), 18 A2 (in), 19 A1 (in), 20 A0 (in), 21 Q0 (io), 22 Q1 (io), 23 Q2 (io), 24 GND (power), 25 Q3 (io), 26 Q4 (io), 27 Q5 (io), 28 Q6 (io), 29 Q7 (io), 30 ~{CE} (in), 31 A10 (in), 32 ~{OE} (in)

## M27C405-90N6
designator U?
4 Mbit (512Kb x 8) OTP EPROM; Published: 24-Aug-2001; LatestRevisionDate: 26-May-2004; LatestRevisionNote: Pad length of PCB Footprint increased.; DatasheetDocument: Mar-1999; PackageDocument: Mar-1999; PackageReference: TSOP32; Publisher: Altium Limited; Code_JEDEC: MO-142-BD
footprint TSOP32 (Shrink Small Outline, Plastic, Thin; 32 Leads; Body Width 18.4 mm; Pitch 0.5 mm)
pins: 1 A11 (in), 2 A9 (in), 3 A8 (in), 4 A13 (in), 5 A14 (in), 6 A17 (in), 7 VPP (power), 8 VCC (power), 9 A18 (in), 10 A16 (in), 11 A15 (in), 12 A12 (in), 13 A7 (in), 14 A6 (in), 15 A5 (in), 16 A4 (in), 17 A3 (in), 18 A2 (in), 19 A1 (in), 20 A0 (in), 21 Q0 (io), 22 Q1 (io), 23 Q2 (io), 24 GND (power), 25 Q3 (io), 26 Q4 (io), 27 Q5 (io), 28 Q6 (io), 29 Q7 (io), 30 ~{CE} (in), 31 A10 (in), 32 ~{OE} (in)

## M27C405-100B1
designator U?
4 Mbit (512Kb x 8) OTP EPROM; PackageDocument: 1998; Published: 24-Aug-2001; LatestRevisionDate: 17-Jul-2002; LatestRevisionNote: Re-released for DXP Platform.; DatasheetDocument: Mar-1999; PackageReference: PDIP32; Publisher: Altium Limited
footprint PDIP32 (DIP, Plastic; 32 Leads; Row Spacing 15.24 mm; Pitch 2.54 mm)
pins: 1 A18 (in), 2 A16 (in), 3 A15 (in), 4 A12 (in), 5 A7 (in), 6 A6 (in), 7 A5 (in), 8 A4 (in), 9 A3 (in), 10 A2 (in), 11 A1 (in), 12 A0 (in), 13 Q0 (io), 14 Q1 (io), 15 Q2 (io), 16 GND (power), 17 Q3 (io), 18 Q4 (io), 19 Q5 (io), 20 Q6 (io), 21 Q7 (io), 22 ~{CE} (in), 23 A10 (in), 24 ~{OE} (in), 25 A11 (in), 26 A9 (in), 27 A8 (in), 28 A13 (in), 29 A14 (in), 30 A17 (in), 31 VPP (power), 32 VCC (power)

## M27C405-100B6
designator U?
4 Mbit (512Kb x 8) OTP EPROM; PackageDocument: 1998; Published: 24-Aug-2001; LatestRevisionDate: 17-Jul-2002; LatestRevisionNote: Re-released for DXP Platform.; DatasheetDocument: Mar-1999; PackageReference: PDIP32; Publisher: Altium Limited
footprint PDIP32 (DIP, Plastic; 32 Leads; Row Spacing 15.24 mm; Pitch 2.54 mm)
pins: 1 A18 (in), 2 A16 (in), 3 A15 (in), 4 A12 (in), 5 A7 (in), 6 A6 (in), 7 A5 (in), 8 A4 (in), 9 A3 (in), 10 A2 (in), 11 A1 (in), 12 A0 (in), 13 Q0 (io), 14 Q1 (io), 15 Q2 (io), 16 GND (power), 17 Q3 (io), 18 Q4 (io), 19 Q5 (io), 20 Q6 (io), 21 Q7 (io), 22 ~{CE} (in), 23 A10 (in), 24 ~{OE} (in), 25 A11 (in), 26 A9 (in), 27 A8 (in), 28 A13 (in), 29 A14 (in), 30 A17 (in), 31 VPP (power), 32 VCC (power)

## M27C405-100K1
designator U?
4 Mbit (512Kb x 8) OTP EPROM; Published: 24-Aug-2001; LatestRevisionDate: 17-Jul-2002; LatestRevisionNote: Re-released for DXP Platform.; DatasheetDocument: Mar-1999; PackageDocument: Jun-1998; PackageReference: PLCC32; Publisher: Altium Limited; Code_JEDEC: MS-016-AE; Code_IPC: PLCC/R-32
footprint PLCC32 (Leaded Chip Carrier; 32 Leads; Body 11.4 x 14 mm)
pins: 1 A18 (in), 2 A16 (in), 3 A15 (in), 4 A12 (in), 5 A7 (in), 6 A6 (in), 7 A5 (in), 8 A4 (in), 9 A3 (in), 10 A2 (in), 11 A1 (in), 12 A0 (in), 13 Q0 (io), 14 Q1 (io), 15 Q2 (io), 16 GND (power), 17 Q3 (io), 18 Q4 (io), 19 Q5 (io), 20 Q6 (io), 21 Q7 (io), 22 ~{CE} (in), 23 A10 (in), 24 ~{OE} (in), 25 A11 (in), 26 A9 (in), 27 A8 (in), 28 A13 (in), 29 A14 (in), 30 A17 (in), 31 VPP (power), 32 VCC (power)

## M27C405-100K6
designator U?
4 Mbit (512Kb x 8) OTP EPROM; Published: 24-Aug-2001; LatestRevisionDate: 17-Jul-2002; LatestRevisionNote: Re-released for DXP Platform.; DatasheetDocument: Mar-1999; PackageDocument: Jun-1998; PackageReference: PLCC32; Publisher: Altium Limited; Code_JEDEC: MS-016-AE; Code_IPC: PLCC/R-32
footprint PLCC32 (Leaded Chip Carrier; 32 Leads; Body 11.4 x 14 mm)
pins: 1 A18 (in), 2 A16 (in), 3 A15 (in), 4 A12 (in), 5 A7 (in), 6 A6 (in), 7 A5 (in), 8 A4 (in), 9 A3 (in), 10 A2 (in), 11 A1 (in), 12 A0 (in), 13 Q0 (io), 14 Q1 (io), 15 Q2 (io), 16 GND (power), 17 Q3 (io), 18 Q4 (io), 19 Q5 (io), 20 Q6 (io), 21 Q7 (io), 22 ~{CE} (in), 23 A10 (in), 24 ~{OE} (in), 25 A11 (in), 26 A9 (in), 27 A8 (in), 28 A13 (in), 29 A14 (in), 30 A17 (in), 31 VPP (power), 32 VCC (power)

## M27C405-100N1
designator U?
4 Mbit (512Kb x 8) OTP EPROM; Published: 24-Aug-2001; LatestRevisionDate: 26-May-2004; LatestRevisionNote: Pad length of PCB Footprint increased.; DatasheetDocument: Mar-1999; PackageDocument: Mar-1999; PackageReference: TSOP32; Publisher: Altium Limited; Code_JEDEC: MO-142-BD
footprint TSOP32 (Shrink Small Outline, Plastic, Thin; 32 Leads; Body Width 18.4 mm; Pitch 0.5 mm)
pins: 1 A11 (in), 2 A9 (in), 3 A8 (in), 4 A13 (in), 5 A14 (in), 6 A17 (in), 7 VPP (power), 8 VCC (power), 9 A18 (in), 10 A16 (in), 11 A15 (in), 12 A12 (in), 13 A7 (in), 14 A6 (in), 15 A5 (in), 16 A4 (in), 17 A3 (in), 18 A2 (in), 19 A1 (in), 20 A0 (in), 21 Q0 (io), 22 Q1 (io), 23 Q2 (io), 24 GND (power), 25 Q3 (io), 26 Q4 (io), 27 Q5 (io), 28 Q6 (io), 29 Q7 (io), 30 ~{CE} (in), 31 A10 (in), 32 ~{OE} (in)

## M27C405-100N6
designator U?
4 Mbit (512Kb x 8) OTP EPROM; Published: 24-Aug-2001; LatestRevisionDate: 26-May-2004; LatestRevisionNote: Pad length of PCB Footprint increased.; DatasheetDocument: Mar-1999; PackageDocument: Mar-1999; PackageReference: TSOP32; Publisher: Altium Limited; Code_JEDEC: MO-142-BD
footprint TSOP32 (Shrink Small Outline, Plastic, Thin; 32 Leads; Body Width 18.4 mm; Pitch 0.5 mm)
pins: 1 A11 (in), 2 A9 (in), 3 A8 (in), 4 A13 (in), 5 A14 (in), 6 A17 (in), 7 VPP (power), 8 VCC (power), 9 A18 (in), 10 A16 (in), 11 A15 (in), 12 A12 (in), 13 A7 (in), 14 A6 (in), 15 A5 (in), 16 A4 (in), 17 A3 (in), 18 A2 (in), 19 A1 (in), 20 A0 (in), 21 Q0 (io), 22 Q1 (io), 23 Q2 (io), 24 GND (power), 25 Q3 (io), 26 Q4 (io), 27 Q5 (io), 28 Q6 (io), 29 Q7 (io), 30 ~{CE} (in), 31 A10 (in), 32 ~{OE} (in)

## M27C405-120B1
designator U?
4 Mbit (512Kb x 8) OTP EPROM; PackageDocument: 1998; Published: 24-Aug-2001; LatestRevisionDate: 17-Jul-2002; LatestRevisionNote: Re-released for DXP Platform.; DatasheetDocument: Mar-1999; PackageReference: PDIP32; Publisher: Altium Limited
footprint PDIP32 (DIP, Plastic; 32 Leads; Row Spacing 15.24 mm; Pitch 2.54 mm)
pins: 1 A18 (in), 2 A16 (in), 3 A15 (in), 4 A12 (in), 5 A7 (in), 6 A6 (in), 7 A5 (in), 8 A4 (in), 9 A3 (in), 10 A2 (in), 11 A1 (in), 12 A0 (in), 13 Q0 (io), 14 Q1 (io), 15 Q2 (io), 16 GND (power), 17 Q3 (io), 18 Q4 (io), 19 Q5 (io), 20 Q6 (io), 21 Q7 (io), 22 ~{CE} (in), 23 A10 (in), 24 ~{OE} (in), 25 A11 (in), 26 A9 (in), 27 A8 (in), 28 A13 (in), 29 A14 (in), 30 A17 (in), 31 VPP (power), 32 VCC (power)

## M27C405-120B6
designator U?
4 Mbit (512Kb x 8) OTP EPROM; PackageDocument: 1998; Published: 24-Aug-2001; LatestRevisionDate: 17-Jul-2002; LatestRevisionNote: Re-released for DXP Platform.; DatasheetDocument: Mar-1999; PackageReference: PDIP32; Publisher: Altium Limited
footprint PDIP32 (DIP, Plastic; 32 Leads; Row Spacing 15.24 mm; Pitch 2.54 mm)
pins: 1 A18 (in), 2 A16 (in), 3 A15 (in), 4 A12 (in), 5 A7 (in), 6 A6 (in), 7 A5 (in), 8 A4 (in), 9 A3 (in), 10 A2 (in), 11 A1 (in), 12 A0 (in), 13 Q0 (io), 14 Q1 (io), 15 Q2 (io), 16 GND (power), 17 Q3 (io), 18 Q4 (io), 19 Q5 (io), 20 Q6 (io), 21 Q7 (io), 22 ~{CE} (in), 23 A10 (in), 24 ~{OE} (in), 25 A11 (in), 26 A9 (in), 27 A8 (in), 28 A13 (in), 29 A14 (in), 30 A17 (in), 31 VPP (power), 32 VCC (power)

## M27C405-120K1
designator U?
4 Mbit (512Kb x 8) OTP EPROM; Published: 24-Aug-2001; LatestRevisionDate: 17-Jul-2002; LatestRevisionNote: Re-released for DXP Platform.; DatasheetDocument: Mar-1999; PackageDocument: Jun-1998; PackageReference: PLCC32; Publisher: Altium Limited; Code_JEDEC: MS-016-AE; Code_IPC: PLCC/R-32
footprint PLCC32 (Leaded Chip Carrier; 32 Leads; Body 11.4 x 14 mm)
pins: 1 A18 (in), 2 A16 (in), 3 A15 (in), 4 A12 (in), 5 A7 (in), 6 A6 (in), 7 A5 (in), 8 A4 (in), 9 A3 (in), 10 A2 (in), 11 A1 (in), 12 A0 (in), 13 Q0 (io), 14 Q1 (io), 15 Q2 (io), 16 GND (power), 17 Q3 (io), 18 Q4 (io), 19 Q5 (io), 20 Q6 (io), 21 Q7 (io), 22 ~{CE} (in), 23 A10 (in), 24 ~{OE} (in), 25 A11 (in), 26 A9 (in), 27 A8 (in), 28 A13 (in), 29 A14 (in), 30 A17 (in), 31 VPP (power), 32 VCC (power)

## M27C405-120K6
designator U?
4 Mbit (512Kb x 8) OTP EPROM; Published: 24-Aug-2001; LatestRevisionDate: 17-Jul-2002; LatestRevisionNote: Re-released for DXP Platform.; DatasheetDocument: Mar-1999; PackageDocument: Jun-1998; PackageReference: PLCC32; Publisher: Altium Limited; Code_JEDEC: MS-016-AE; Code_IPC: PLCC/R-32
footprint PLCC32 (Leaded Chip Carrier; 32 Leads; Body 11.4 x 14 mm)
pins: 1 A18 (in), 2 A16 (in), 3 A15 (in), 4 A12 (in), 5 A7 (in), 6 A6 (in), 7 A5 (in), 8 A4 (in), 9 A3 (in), 10 A2 (in), 11 A1 (in), 12 A0 (in), 13 Q0 (io), 14 Q1 (io), 15 Q2 (io), 16 GND (power), 17 Q3 (io), 18 Q4 (io), 19 Q5 (io), 20 Q6 (io), 21 Q7 (io), 22 ~{CE} (in), 23 A10 (in), 24 ~{OE} (in), 25 A11 (in), 26 A9 (in), 27 A8 (in), 28 A13 (in), 29 A14 (in), 30 A17 (in), 31 VPP (power), 32 VCC (power)

## M27C405-120N1
designator U?
4 Mbit (512Kb x 8) OTP EPROM; Published: 24-Aug-2001; LatestRevisionDate: 26-May-2004; LatestRevisionNote: Pad length of PCB Footprint increased.; DatasheetDocument: Mar-1999; PackageDocument: Mar-1999; PackageReference: TSOP32; Publisher: Altium Limited; Code_JEDEC: MO-142-BD
footprint TSOP32 (Shrink Small Outline, Plastic, Thin; 32 Leads; Body Width 18.4 mm; Pitch 0.5 mm)
pins: 1 A11 (in), 2 A9 (in), 3 A8 (in), 4 A13 (in), 5 A14 (in), 6 A17 (in), 7 VPP (power), 8 VCC (power), 9 A18 (in), 10 A16 (in), 11 A15 (in), 12 A12 (in), 13 A7 (in), 14 A6 (in), 15 A5 (in), 16 A4 (in), 17 A3 (in), 18 A2 (in), 19 A1 (in), 20 A0 (in), 21 Q0 (io), 22 Q1 (io), 23 Q2 (io), 24 GND (power), 25 Q3 (io), 26 Q4 (io), 27 Q5 (io), 28 Q6 (io), 29 Q7 (io), 30 ~{CE} (in), 31 A10 (in), 32 ~{OE} (in)

## M27C405-120N6
designator U?
4 Mbit (512Kb x 8) OTP EPROM; Published: 24-Aug-2001; LatestRevisionDate: 26-May-2004; LatestRevisionNote: Pad length of PCB Footprint increased.; DatasheetDocument: Mar-1999; PackageDocument: Mar-1999; PackageReference: TSOP32; Publisher: Altium Limited; Code_JEDEC: MO-142-BD
footprint TSOP32 (Shrink Small Outline, Plastic, Thin; 32 Leads; Body Width 18.4 mm; Pitch 0.5 mm)
pins: 1 A11 (in), 2 A9 (in), 3 A8 (in), 4 A13 (in), 5 A14 (in), 6 A17 (in), 7 VPP (power), 8 VCC (power), 9 A18 (in), 10 A16 (in), 11 A15 (in), 12 A12 (in), 13 A7 (in), 14 A6 (in), 15 A5 (in), 16 A4 (in), 17 A3 (in), 18 A2 (in), 19 A1 (in), 20 A0 (in), 21 Q0 (io), 22 Q1 (io), 23 Q2 (io), 24 GND (power), 25 Q3 (io), 26 Q4 (io), 27 Q5 (io), 28 Q6 (io), 29 Q7 (io), 30 ~{CE} (in), 31 A10 (in), 32 ~{OE} (in)

## M27C405-150B1
designator U?
4 Mbit (512Kb x 8) OTP EPROM; PackageDocument: 1998; Published: 24-Aug-2001; LatestRevisionDate: 17-Jul-2002; LatestRevisionNote: Re-released for DXP Platform.; DatasheetDocument: Mar-1999; PackageReference: PDIP32; Publisher: Altium Limited
footprint PDIP32 (DIP, Plastic; 32 Leads; Row Spacing 15.24 mm; Pitch 2.54 mm)
pins: 1 A18 (in), 2 A16 (in), 3 A15 (in), 4 A12 (in), 5 A7 (in), 6 A6 (in), 7 A5 (in), 8 A4 (in), 9 A3 (in), 10 A2 (in), 11 A1 (in), 12 A0 (in), 13 Q0 (io), 14 Q1 (io), 15 Q2 (io), 16 GND (power), 17 Q3 (io), 18 Q4 (io), 19 Q5 (io), 20 Q6 (io), 21 Q7 (io), 22 ~{CE} (in), 23 A10 (in), 24 ~{OE} (in), 25 A11 (in), 26 A9 (in), 27 A8 (in), 28 A13 (in), 29 A14 (in), 30 A17 (in), 31 VPP (power), 32 VCC (power)

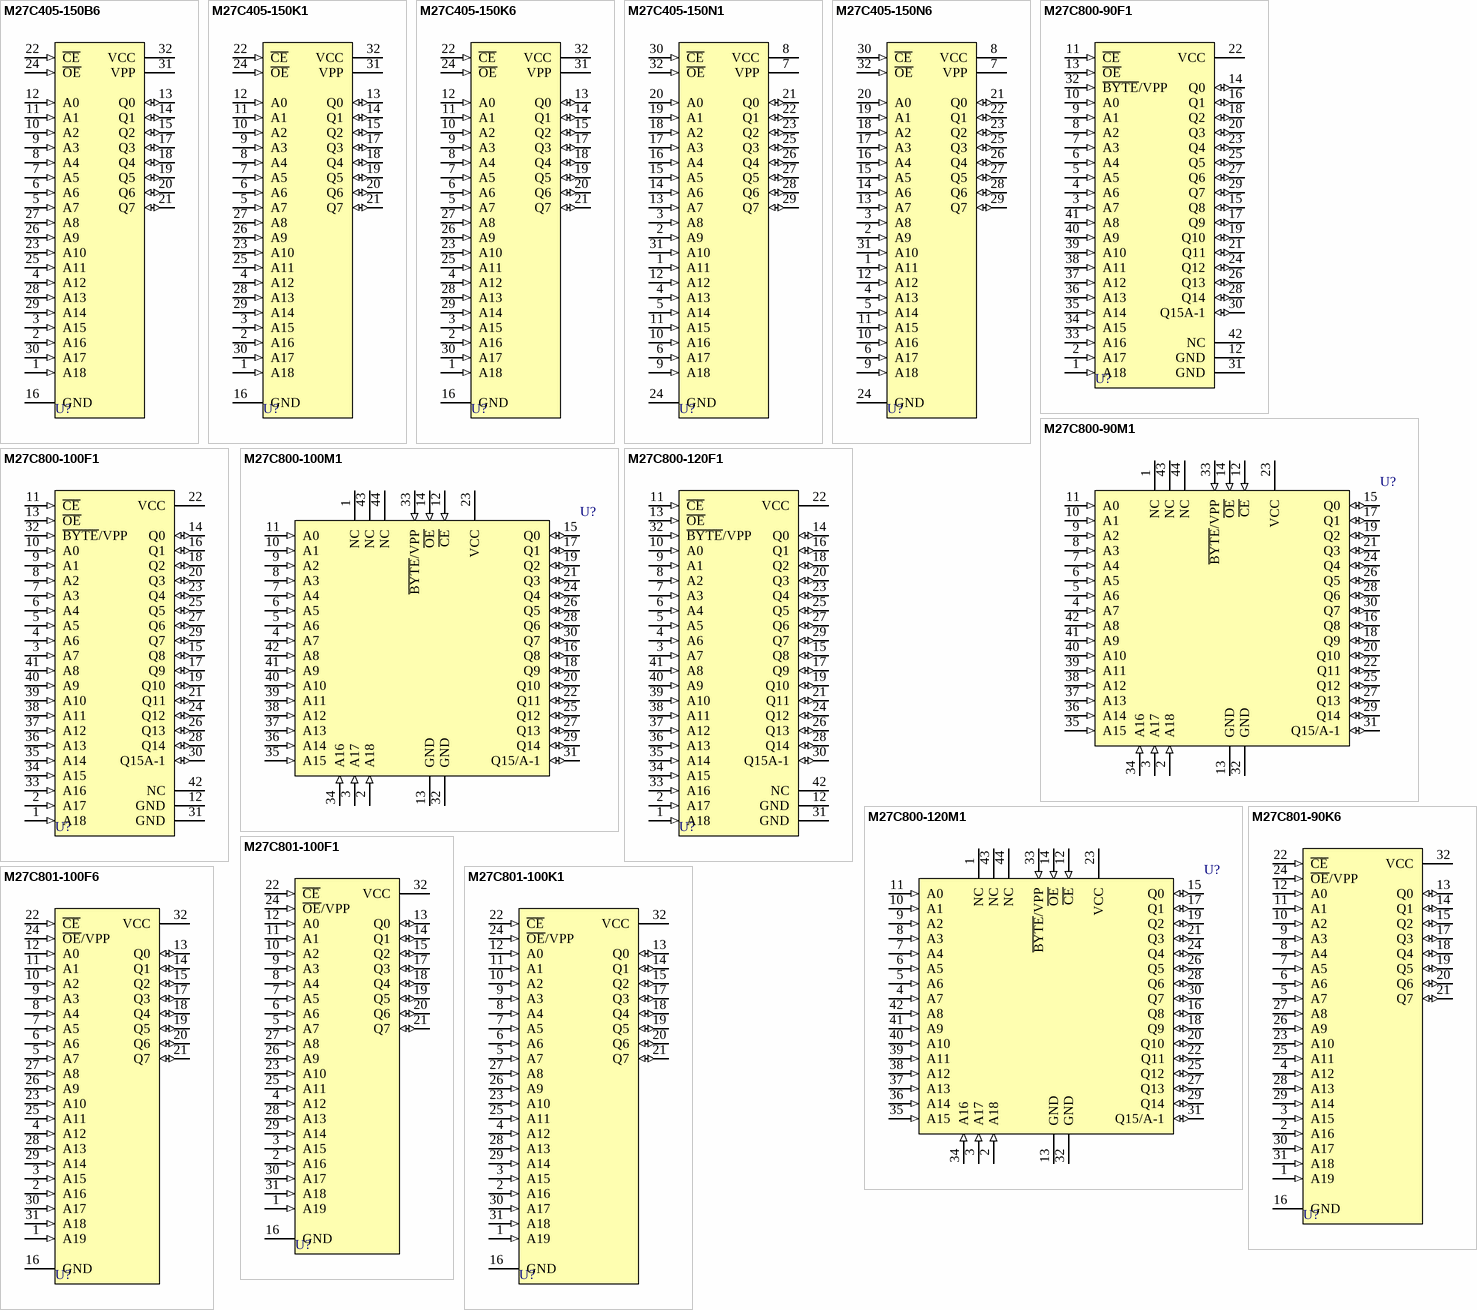
[diagram p3: symbols M27C405-150B6 to M27C801-100K1]

## M27C405-150B6
designator U?
4 Mbit (512Kb x 8) OTP EPROM; PackageDocument: 1998; Published: 24-Aug-2001; LatestRevisionDate: 17-Jul-2002; LatestRevisionNote: Re-released for DXP Platform.; DatasheetDocument: Mar-1999; PackageReference: PDIP32; Publisher: Altium Limited
footprint PDIP32 (DIP, Plastic; 32 Leads; Row Spacing 15.24 mm; Pitch 2.54 mm)
pins: 1 A18 (in), 2 A16 (in), 3 A15 (in), 4 A12 (in), 5 A7 (in), 6 A6 (in), 7 A5 (in), 8 A4 (in), 9 A3 (in), 10 A2 (in), 11 A1 (in), 12 A0 (in), 13 Q0 (io), 14 Q1 (io), 15 Q2 (io), 16 GND (power), 17 Q3 (io), 18 Q4 (io), 19 Q5 (io), 20 Q6 (io), 21 Q7 (io), 22 ~{CE} (in), 23 A10 (in), 24 ~{OE} (in), 25 A11 (in), 26 A9 (in), 27 A8 (in), 28 A13 (in), 29 A14 (in), 30 A17 (in), 31 VPP (power), 32 VCC (power)

## M27C405-150K1
designator U?
4 Mbit (512Kb x 8) OTP EPROM; Published: 24-Aug-2001; LatestRevisionDate: 17-Jul-2002; LatestRevisionNote: Re-released for DXP Platform.; DatasheetDocument: Mar-1999; PackageDocument: Jun-1998; PackageReference: PLCC32; Publisher: Altium Limited; Code_JEDEC: MS-016-AE; Code_IPC: PLCC/R-32
footprint PLCC32 (Leaded Chip Carrier; 32 Leads; Body 11.4 x 14 mm)
pins: 1 A18 (in), 2 A16 (in), 3 A15 (in), 4 A12 (in), 5 A7 (in), 6 A6 (in), 7 A5 (in), 8 A4 (in), 9 A3 (in), 10 A2 (in), 11 A1 (in), 12 A0 (in), 13 Q0 (io), 14 Q1 (io), 15 Q2 (io), 16 GND (power), 17 Q3 (io), 18 Q4 (io), 19 Q5 (io), 20 Q6 (io), 21 Q7 (io), 22 ~{CE} (in), 23 A10 (in), 24 ~{OE} (in), 25 A11 (in), 26 A9 (in), 27 A8 (in), 28 A13 (in), 29 A14 (in), 30 A17 (in), 31 VPP (power), 32 VCC (power)

## M27C405-150K6
designator U?
4 Mbit (512Kb x 8) OTP EPROM; Published: 24-Aug-2001; LatestRevisionDate: 17-Jul-2002; LatestRevisionNote: Re-released for DXP Platform.; DatasheetDocument: Mar-1999; PackageDocument: Jun-1998; PackageReference: PLCC32; Publisher: Altium Limited; Code_JEDEC: MS-016-AE; Code_IPC: PLCC/R-32
footprint PLCC32 (Leaded Chip Carrier; 32 Leads; Body 11.4 x 14 mm)
pins: 1 A18 (in), 2 A16 (in), 3 A15 (in), 4 A12 (in), 5 A7 (in), 6 A6 (in), 7 A5 (in), 8 A4 (in), 9 A3 (in), 10 A2 (in), 11 A1 (in), 12 A0 (in), 13 Q0 (io), 14 Q1 (io), 15 Q2 (io), 16 GND (power), 17 Q3 (io), 18 Q4 (io), 19 Q5 (io), 20 Q6 (io), 21 Q7 (io), 22 ~{CE} (in), 23 A10 (in), 24 ~{OE} (in), 25 A11 (in), 26 A9 (in), 27 A8 (in), 28 A13 (in), 29 A14 (in), 30 A17 (in), 31 VPP (power), 32 VCC (power)

## M27C405-150N1
designator U?
4 Mbit (512Kb x 8) OTP EPROM; Published: 24-Aug-2001; LatestRevisionDate: 26-May-2004; LatestRevisionNote: Pad length of PCB Footprint increased.; DatasheetDocument: Mar-1999; PackageDocument: Mar-1999; PackageReference: TSOP32; Publisher: Altium Limited; Code_JEDEC: MO-142-BD
footprint TSOP32 (Shrink Small Outline, Plastic, Thin; 32 Leads; Body Width 18.4 mm; Pitch 0.5 mm)
pins: 1 A11 (in), 2 A9 (in), 3 A8 (in), 4 A13 (in), 5 A14 (in), 6 A17 (in), 7 VPP (power), 8 VCC (power), 9 A18 (in), 10 A16 (in), 11 A15 (in), 12 A12 (in), 13 A7 (in), 14 A6 (in), 15 A5 (in), 16 A4 (in), 17 A3 (in), 18 A2 (in), 19 A1 (in), 20 A0 (in), 21 Q0 (io), 22 Q1 (io), 23 Q2 (io), 24 GND (power), 25 Q3 (io), 26 Q4 (io), 27 Q5 (io), 28 Q6 (io), 29 Q7 (io), 30 ~{CE} (in), 31 A10 (in), 32 ~{OE} (in)

## M27C405-150N6
designator U?
4 Mbit (512Kb x 8) OTP EPROM; Published: 24-Aug-2001; LatestRevisionDate: 26-May-2004; LatestRevisionNote: Pad length of PCB Footprint increased.; DatasheetDocument: Mar-1999; PackageDocument: Mar-1999; PackageReference: TSOP32; Publisher: Altium Limited; Code_JEDEC: MO-142-BD
footprint TSOP32 (Shrink Small Outline, Plastic, Thin; 32 Leads; Body Width 18.4 mm; Pitch 0.5 mm)
pins: 1 A11 (in), 2 A9 (in), 3 A8 (in), 4 A13 (in), 5 A14 (in), 6 A17 (in), 7 VPP (power), 8 VCC (power), 9 A18 (in), 10 A16 (in), 11 A15 (in), 12 A12 (in), 13 A7 (in), 14 A6 (in), 15 A5 (in), 16 A4 (in), 17 A3 (in), 18 A2 (in), 19 A1 (in), 20 A0 (in), 21 Q0 (io), 22 Q1 (io), 23 Q2 (io), 24 GND (power), 25 Q3 (io), 26 Q4 (io), 27 Q5 (io), 28 Q6 (io), 29 Q7 (io), 30 ~{CE} (in), 31 A10 (in), 32 ~{OE} (in)

## M27C800-90F1
designator U?
8 Mbit (1Mb x 8 or 512Kb x 16) UV EPROM and OTP EPROM; Published: 24-Aug-2001; LatestRevisionDate: 17-Jul-2002; LatestRevisionNote: Re-released for DXP Platform.; DatasheetDocument: Mar-1999; PackageReference: FDIP42W; Publisher: Altium Limited
footprint FDIP42W (Ceramic Frit-seal DIP, Window; 42 Leads; Row Spacing 15.24 mm; Pitch 2.54 mm)
pins: 1 A18 (in), 2 A17 (in), 3 A7 (in), 4 A6 (in), 5 A5 (in), 6 A4 (in), 7 A3 (in), 8 A2 (in), 9 A1 (in), 10 A0 (in), 11 ~{CE} (in), 12 GND (power), 13 ~{OE} (in), 14 Q0 (io), 15 Q8 (io), 16 Q1 (io), 17 Q9 (io), 18 Q2 (io), 19 Q10 (io), 20 Q3 (io), 21 Q11 (io), 22 VCC (power), 23 Q4 (io), 24 Q12 (io), 25 Q5 (io), 26 Q13 (io), 27 Q6 (io), 28 Q14 (io), 29 Q7 (io), 30 Q15A-1 (io), 31 GND (power), 32 ~{BYTE}/VPP (in), 33 A16 (in), 34 A15 (in), 35 A14 (in), 36 A13 (in), 37 A12 (in), 38 A11 (in), 39 A10 (in), 40 A9 (in), 41 A8 (in), 42 NC